# Altium footprint library MICROCHIP TSSOP-8 ST.PCBLIB: 1 footprints
Each footprint in its own frame and in the unit in brackets; x right, y up, seen from the top. Pads: shape width x height; smd on the part's side, far side on the other; paste and mask are expansions set on the pad; w line width, h text height; cw(c..) or ccw(c..) is an arc to the next point about the centre after c.
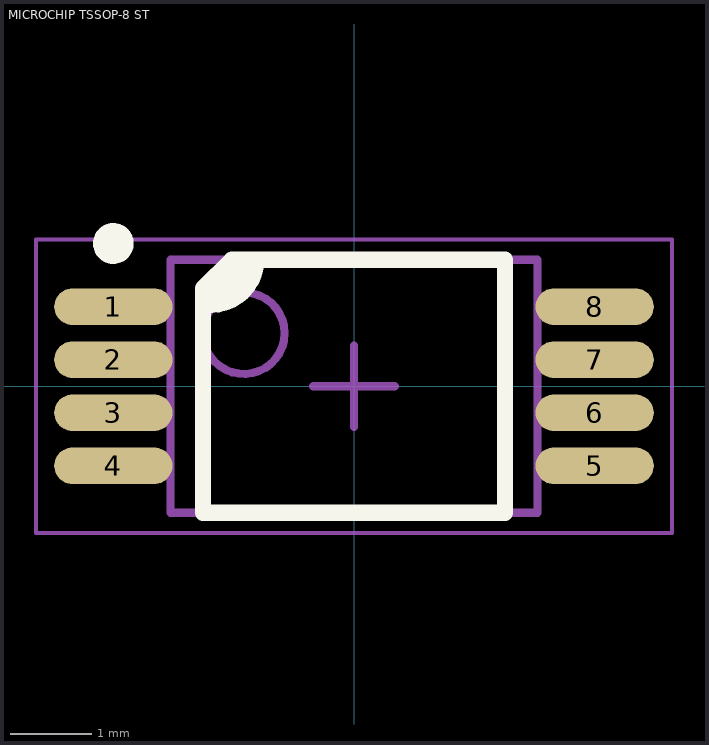
[diagram p0: the footprint, top view; thin cyan lines are the x and y axes]

## MICROCHIP TSSOP-8 ST [mm] "TSSOP, 8-Leads, Body 3.00x4.40mm, Pitch 0.65mm, IPC Medium Density"
height 1.2
pads (8):
  oval 1.45x0.45 smd: 1(-2.95,0.975) 2(-2.95,0.325) 3(-2.95,-0.325) 4(-2.95,-0.975) 5(2.95,-0.975) 6(2.95,-0.325) 7(2.95,0.325) 8(2.95,0.975)
Top Overlay:
  circle w0.25: c-2.95,1.75 r0.125
  region: -1.5,1.55 -1.2,1.55 -1.2,1.441 -1.284,1.238 -1.438,1.084 -1.641,1 -1.75,1 -1.85,1 -1.85,1.2
  lines w0.2: -1.85,1 -1.75,1 ccw(c-1.75,1.55) -1.2,1.55 ; -1.85,-1.55 1.85,-1.55 1.85,1.55 -1.5,1.55 -1.85,1.2 -1.85,-1.55
Mechanical 13:
  circle w0.1: c-1.35,0.65 r0.5
  lines w0.1: -2.25,-1.55 -2.25,1.55 2.25,1.55 2.25,-1.55 -2.25,-1.55
Mechanical 15:
  lines w0.05: -3.9,-1.8 -3.9,1.8 3.9,1.8 3.9,-1.8 -3.9,-1.8
  lines w0.1: -0.5,0 0.5,0 ; 0,-0.5 0,0.5
3D body "TSSOP-8.STEP": height 1.2, standoff 0, extent -3.21,-1.5 3.211,1.5